# Altium schematic symbol library Atmel.SchLib: 2 symbols
Pins are listed as number, name and electrical type; pins without a type are passive.

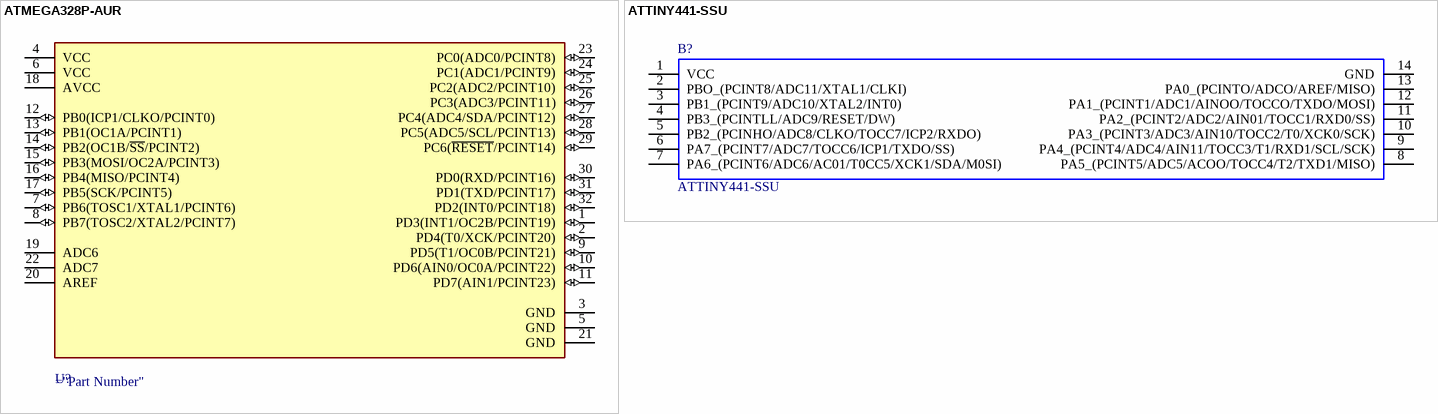
[diagram p0: symbols ATMEGA328P-AUR to ATTINY441-SSU]

## ATMEGA328P-AUR
designator U?  (value not drawn)
footprint Microchip_32A_0
pins: 1 PD3(INT1/OC2B/PCINT19) (io), 2 PD4(T0/XCK/PCINT20) (io), 3 GND (power), 4 VCC (power), 5 GND (power), 6 VCC (power), 7 PB6(TOSC1/XTAL1/PCINT6) (io), 8 PB7(TOSC2/XTAL2/PCINT7) (io), 9 PD5(T1/OC0B/PCINT21) (io), 10 PD6(AIN0/OC0A/PCINT22) (io), 11 PD7(AIN1/PCINT23) (io), 12 PB0(ICP1/CLKO/PCINT0) (io), 13 PB1(OC1A/PCINT1) (io), 14 PB2(OC1B/~{SS}/PCINT2) (io), 15 PB3(MOSI/OC2A/PCINT3) (io), 16 PB4(MISO/PCINT4) (io), 17 PB5(SCK/PCINT5) (io), 18 AVCC (power), 19 ADC6, 20 AREF, 21 GND (power), 22 ADC7, 23 PC0(ADC0/PCINT8) (io), 24 PC1(ADC1/PCINT9) (io), 25 PC2(ADC2/PCINT10) (io), 26 PC3(ADC3/PCINT11) (io), 27 PC4(ADC4/SDA/PCINT12) (io), 28 PC5(ADC5/SCL/PCINT13) (io), 29 PC6(~{RESET}/PCINT14) (io), 30 PD0(RXD/PCINT16) (io), 31 PD1(TXD/PCINT17) (io), 32 PD2(INT0/PCINT18) (io)

## ATTINY441-SSU
designator B?
8-bit Microcontrollers - MCU 16MHz 0.150" 14 SOIC; Manufacturer_Name: Microchip; Geometry.Height: 1.75mm; Manufacturer_Part_Number: ATTINY441-SSU; RS Part Number: 1331634; RS Price/Stock: http://uk.rs-online.com/web/p/products/1331634; Arrow Part Number: ATTINY441-SSU; Arrow Price/Stock: https://www.arrow.com/en/products/attiny441-ssu/microchip-technology; Datasheet Link: http://docs-emea.rs-online.com/webdocs/1441/0900766b81441b76.pdf
footprint SOIC127P600X175-14N
pins: 1 VCC (power), 2 PBO_(PCINT8/ADC11/XTAL1/CLKI), 3 PB1_(PCINT9/ADC10/XTAL2/INT0), 4 PB3_(PCINTLL/ADC9/RESET/DW), 5 PB2_(PCINHO/ADC8/CLKO/TOCC7/ICP2/RXDO), 6 PA7_(PCINT7/ADC7/TOCC6/ICP1/TXDO/SS), 7 PA6_(PCINT6/ADC6/AC01/T0CC5/XCK1/SDA/M0SI), 8 PA5_(PCINT5/ADC5/ACOO/TOCC4/T2/TXD1/MISO), 9 PA4_(PCINT4/ADC4/AIN11/TOCC3/T1/RXD1/SCL/SCK), 10 PA3_(PCINT3/ADC3/AIN10/TOCC2/T0/XCK0/SCK), 11 PA2_(PCINT2/ADC2/AIN01/TOCC1/RXD0/SS), 12 PA1_(PCINT1/ADC1/AINOO/TOCCO/TXDO/MOSI), 13 PA0_(PCINTO/ADCO/AREF/MISO), 14 GND